# Altium integrated library DS04-254-2-01BK-SMT.IntLib: 1 symbol
Pins are listed as number, name and electrical type; pins without a type are passive.

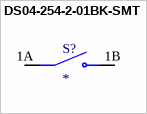
[diagram p0: symbol DS04-254-2-01BK-SMT]

## DS04-254-2-01BK-SMT
designator S?
1 Position, Surface Mount, 2.54 mm Pitch, Flat Slide Actuator, Flat Bottom, SMT Pin, DIP Switch; MF: Same Sky; MP: DS04-254-2-01BK-SMT; SnapEDA_Link: https://www.snapeda.com/parts/DS04-254-2-01BK-SMT/Same+Sky/view-part/?ref=snap; Package: None; Value: *; Check_prices: https://www.snapeda.com/parts/DS04-254-2-01BK-SMT/Same+Sky/view-part/?ref=eda
footprint SW_DS04-254-2-01BK-SMT
pins: 1A COM, 1B NO